# EAGLE library part A6282 (library SparkFun)
Allegro A6282 16-Channel Constant-Current LED Driver Packages: TSSOP-24, 24-pin QFN Last modified: 8/20/10 Unproven!
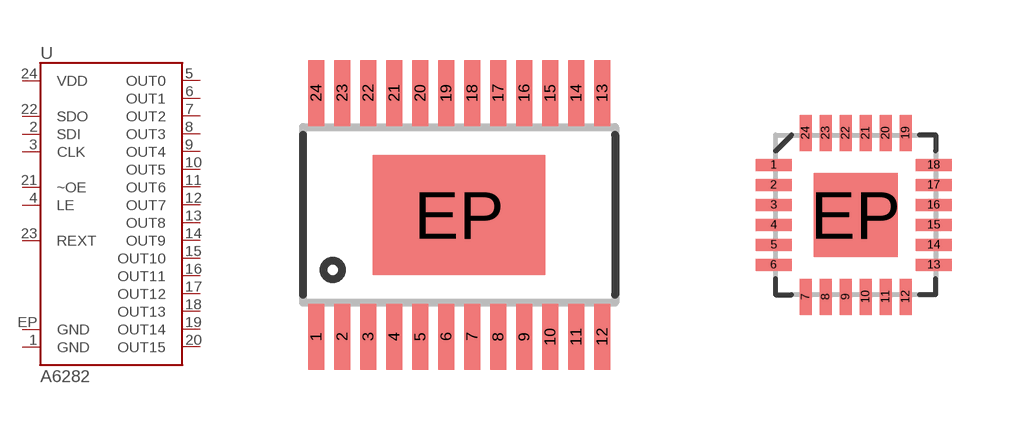
[diagram p321: symbol with the pads of TSSOP-24; footprints TSSOP-24, QFN-24_ALT2]

Designator prefix U

## A6282-LP  [TSSOP-24]
1  GND
2  SDI
3  CLK
4  LE
5  OUT0
6  OUT1
7  OUT2
8  OUT3
9  OUT4
10  OUT5
11  OUT6
12  OUT7
13  OUT8
14  OUT9
15  OUT10
16  OUT11
17  OUT12
18  OUT13
19  OUT14
20  OUT15
21  ~OE
22  SDO
23  REXT
24  VDD
EP  GND

## A6282-ES  [QFN-24_ALT2]
1  SDO
2  REXT
3  VDD
4  GND
5  SDI
6  CLK
7  LE
8  OUT0
9  OUT1
10  OUT2
11  OUT3
12  OUT4
13  OUT5
14  OUT6
15  OUT7
16  OUT8
17  OUT9
18  OUT10
19  OUT11
20  OUT12
21  OUT13
22  OUT14
23  OUT15
24  ~OE
EP  GND

## Footprint TSSOP-24 (pad centres in mm)
24-pin TSSOP with Exposed Thermal Pad Used on: Allegro A6282 16-bit LED driver Last modified: 8/21/10 ***Unproven***
smd 0.4 x 1.65: 1 -3.575,-3.05; 2 -2.925,-3.05; 3 -2.275,-3.05; 4 -1.625,-3.05; 5 -0.975,-3.05; 6 -0.325,-3.05; 7 0.325,-3.05; 8 0.975,-3.05; 9 1.625,-3.05; 10 2.275,-3.05; 11 2.925,-3.05; 12 3.575,-3.05; 13 3.575,3.05; 14 2.925,3.05; 15 2.275,3.05; 16 1.625,3.05; 17 0.975,3.05; 18 0.325,3.05; 19 -0.325,3.05; 20 -0.975,3.05; 21 -1.625,3.05; 22 -2.275,3.05; 23 -2.925,3.05; 24 -3.575,3.05
smd 4.32 x 3: EP 0,0

## Footprint QFN-24_ALT2 (pad centres in mm)
24-pin QFN with Exposed Thermal pad Parts that use this package: A6282 Last modified: 8/20/10 ***UNPROVEN***
smd 0.9 x 0.3: 1 -2.05,1.25; 2 -2.05,0.75; 3 -2.05,0.25; 4 -2.05,-0.25; 5 -2.05,-0.75; 6 -2.05,-1.25; 13 1.95,-1.25; 14 1.95,-0.75; 15 1.95,-0.25; 16 1.95,0.25; 17 1.95,0.75; 18 1.95,1.25
smd 0.3 x 0.9: 7 -1.25,-2.05; 8 -0.75,-2.05; 9 -0.25,-2.05; 10 0.25,-2.05; 11 0.75,-2.05; 12 1.25,-2.05; 19 1.25,2.05; 20 0.75,2.05; 21 0.25,2.05; 22 -0.25,2.05; 23 -0.75,2.05; 24 -1.25,2.05
smd 2.1 x 2.1: EP 0,0